# Altium footprint library IC_Microchip_MCP73831T-2ATI-OT_eec_IPC_C.PcbLib: 1 footprints
Each footprint in its own frame and in the unit in brackets; x right, y up, seen from the top. Pads: shape width x height; smd on the part's side, far side on the other; paste and mask are expansions set on the pad; w line width, h text height; cw(c..) or ccw(c..) is an arc to the next point about the centre after c.
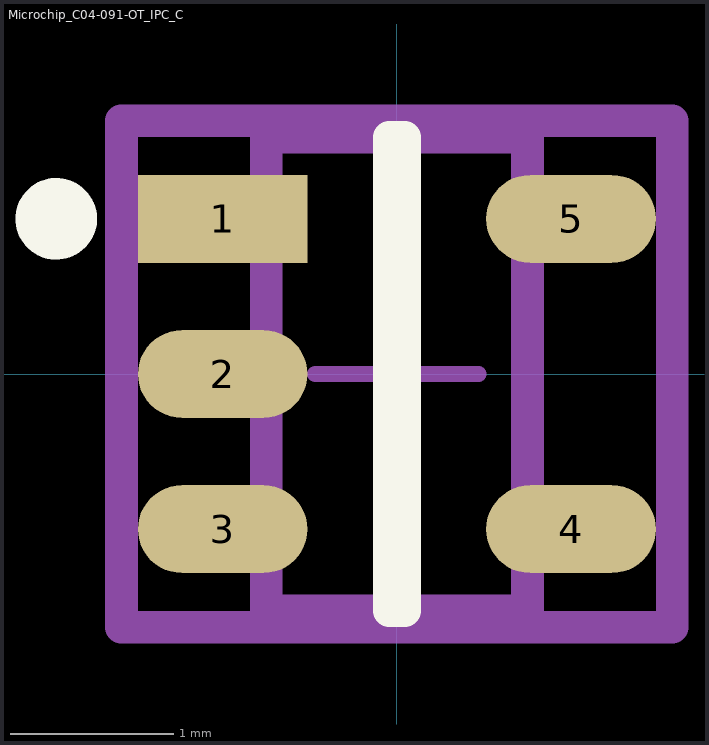
[diagram p0: the footprint, top view; thin cyan lines are the x and y axes]

## Microchip_C04-091-OT_IPC_C [mm]
pads (5):
  rect 1.038x0.538 smd paste+0 mask+0: 1(-1.066,0.95)
  rrect100% 1.038x0.538 smd paste+0 mask+0: 2(-1.066,0) 3(-1.066,-0.95) 4(1.066,-0.95) 5(1.066,0.95)
Top Overlay:
  circle w0.25: c-2.085,0.95 r0.125
  lines w0.2: -0.047,-1.45 0.047,-1.45 0.047,1.45 -0.047,1.45 -0.047,-1.45
Mechanical 10:
  lines w0.2: -1.685,-1.55 1.685,-1.55 1.685,1.55 -1.685,1.55 -1.685,-1.55
  text ".Designator" at 0,0.188 h1
Mechanical 12:
  lines w0.2: -0.8,-1.45 0.8,-1.45 0.8,1.45 -0.8,1.45 -0.8,-1.45
Mechanical 15:
  lines w0.1: -0.5,0 0.5,0 ; 0,-0.5 0,0.5
  lines w0.2: -1.685,-1.55 1.685,-1.55 1.685,1.55 -1.685,1.55 -1.685,-1.55